# Altium footprint library S3B-PH-SM4-TBLFSN.PcbLib: 1 footprints
Each footprint in its own frame and in the unit in brackets; x right, y up, seen from the top. Pads: shape width x height; smd on the part's side, far side on the other; paste and mask are expansions set on the pad; w line width, h text height; cw(c..) or ccw(c..) is an arc to the next point about the centre after c.
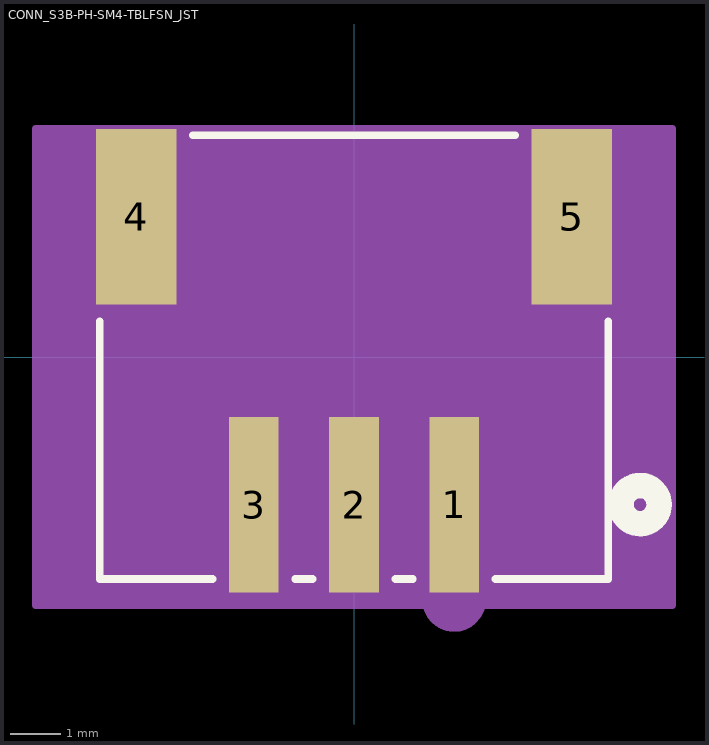
[diagram p0: the footprint, top view; thin cyan lines are the x and y axes]

## CONN_S3B-PH-SM4-TBLFSN_JST [mil]
pads (5):
  rect 39x138 smd paste+0 mask+0: 1(78.74,-115.93) 2(0,-115.93) 3(-78.74,-115.93)
  rect 63x138 smd paste+0 mask+0: 4(-171.26,110.44) 5(171.26,110.44)
Top Overlay:
  circle w20: c225,-115.93 r15
  lines w6: -200,28.34 -200,-174.5 -111.34,-174.5 ; -126.66,174.5 126.66,174.5 ; -46.14,-174.5 -32.6,-174.5 ; 32.6,-174.5 46.14,-174.5 ; 111.34,-174.5 200,-174.5 200,28.34
Bottom Overlay:
  circle w20: c225,-115.93 r15
Mechanical 13:
  circle w20: c78.74,-190.93 r15
  lines w1: -195,-169.5 195,-169.5 195,169.5 -195,169.5 -195,-169.5
Mechanical 15:
  region: 250.26,179.5 -250.26,179.5 -250.26,-194.93 250.26,-194.93
  lines w6: -250.26,-194.93 -250.26,179.5 250.26,179.5 250.26,-194.93 -250.26,-194.93
3D body "S3B-PH-SM4-TB_LF__SN_.stp": height 216.54, standoff -3.94, extent -194.88,-168.58 194.88,170